# EAGLE library part ADC101C027 (library Bits_library_eagle)
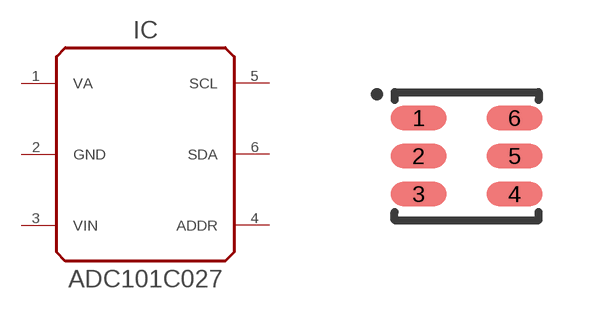
[diagram p3: symbol with the pads of SOT-23-6; footprint SOT-23-6]

Designator prefix IC

## ADC101C027SOT23  [SOT-23-6]
1  VA  pwr
2  GND  pwr
3  VIN  pas
4  ADDR
5  SCL
6  SDA

## Footprint SOT-23-6 (pad centres in mm)
Small Outline Transistor
smd 1.4 x 0.6: 1 -1.2,0.95; 2 -1.2,0; 3 -1.2,-0.95; 4 1.2,-0.95; 5 1.2,0; 6 1.2,0.95